# EAGLE library part 687140144921 (library Wuerth_Elektronik_eiCan_03_ZIF_Connectors_Flat_Flexible_Cable)
WR-FPC 0.5mm SMT ZIF Horizontal Top Contact Low Profile 1.2mm Height, 40 Pins
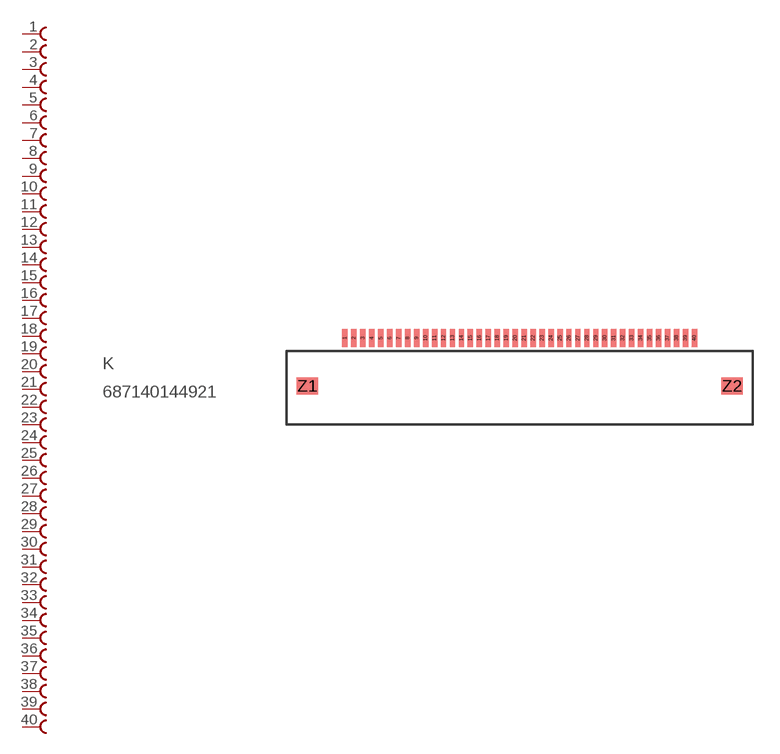
[diagram p105: symbol with the pads of 687140144921; footprint 687140144921]

Designator prefix K

## 687140144921  [687140144921]
1  1  pas
2  2  pas
3  3  pas
4  4  pas
5  5  pas
6  6  pas
7  7  pas
8  8  pas
9  9  pas
10  10  pas
11  11  pas
12  12  pas
13  13  pas
14  14  pas
15  15  pas
16  16  pas
17  17  pas
18  18  pas
19  19  pas
20  20  pas
21  21  pas
22  22  pas
23  23  pas
24  24  pas
25  25  pas
26  26  pas
27  27  pas
28  28  pas
29  29  pas
30  30  pas
31  31  pas
32  32  pas
33  33  pas
34  34  pas
35  35  pas
36  36  pas
37  37  pas
38  38  pas
39  39  pas
40  40  pas

## Footprint 687140144921 (pad centres in mm)
WR-FPC 0.5mm SMT ZIF Horizontal Top Contact Low Profile 1.2mm Height, 40 Pins
smd 0.3 x 1: 1 -9.75,4.825; 2 -9.25,4.825; 3 -8.75,4.825; 4 -8.25,4.825; 5 -7.75,4.825; 6 -7.25,4.825; 7 -6.75,4.825; 8 -6.25,4.825; 9 -5.75,4.825; 10 -5.25,4.825; 11 -4.75,4.825; 12 -4.25,4.825; 13 -3.75,4.825; 14 -3.25,4.825; 15 -2.75,4.825; 16 -2.25,4.825; 17 -1.75,4.825; 18 -1.25,4.825; 19 -0.75,4.825; 20 -0.25,4.825; 21 0.25,4.825; 22 0.75,4.825; 23 1.25,4.825; 24 1.75,4.825; 25 2.25,4.825; 26 2.75,4.825; 27 3.25,4.825; 28 3.75,4.825; 29 4.25,4.825; 30 4.75,4.825; 31 5.25,4.825; 32 5.75,4.825; 33 6.25,4.825; 34 6.75,4.825; 35 7.25,4.825; 36 7.75,4.825; 37 8.25,4.825; 38 8.75,4.825; 39 9.25,4.825; 40 9.75,4.825
smd 1.2 x 0.95: Z1 -11.85,2.15; Z2 11.85,2.15